# Altium schematic symbol library LP3869X.SchLib: 2 symbols
Pins are listed as number, name and electrical type; pins without a type are passive.

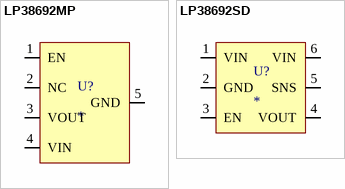
[diagram p0: symbols LP38692MP to LP38692SD]

## LP38692MP
designator U?
LP38692MP (SOT-223); Manufacturer: National Semiconductor; Part No.: LP38692MP-3.3; Vendor: Digi-Key; Value: 3.3V; Price Est.: $1.59
footprint SOT223 (SOT-223/SC-73; 4 Leads; Body 6.7 x 7.3 mm, inc. leads (LxW max))
pins: 1 EN, 2 NC, 3 VOUT, 4 VIN, 5 GND

## LP38692SD
designator U?
LP38692SD (6LEAD-LLP); Part No.: LP38692SD-3.3; Manufacturer: National Semiconductor; Vendor: Digi-Key; Value: 3.3V; Price Est.: $1.59
footprint LLP-6 (LLP (6-lead) (National LP38692))
pins: 1 VIN, 2 GND, 3 EN, 4 VOUT, 5 SNS, 6 VIN, 7 GND hidden to GND